# Altium schematic symbol library flipdot.SchLib: 13 symbols
Pins are listed as number, name and electrical type; pins without a type are passive.

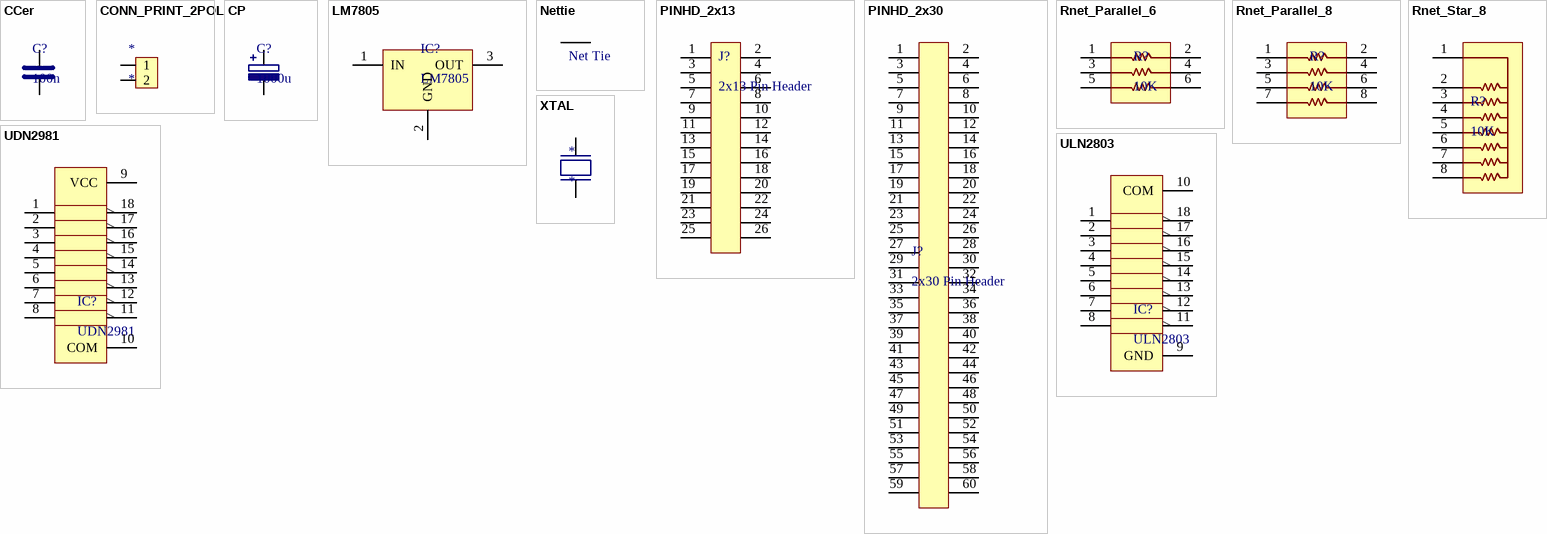
[diagram p0: symbols CCer to XTAL]

## CCer
designator C?, comment 100n
Ceramic Capacitor
pins: 1 +, 2 -

## CONN_PRINT_2POL
designator *
footprint CONN_PLUG_2P_5.08
pins: 1, 2

## CP
designator C?, comment 1000u
Electrolytic Capacitor
pins: N -, P +

## LM7805
designator IC?
5V Linear Regulator
pins: 1 IN, 2 GND, 3 OUT

## Nettie
designator NT?, comment Net Tie
pins: 1, 2

## PINHD_2x13
designator J?, comment 2x13 Pin Header
pins: 1 (power), 2 (power), 3 (power), 4 (power), 5 (power), 6 (power), 7 (power), 8 (power), 9 (power), 10 (power), 11 (power), 12 (power), 13 (power), 14 (power), 15 (power), 16 (power), 17 (power), 18 (power), 19 (power), 20 (power), 21 (power), 22 (power), 23 (power), 24 (power), 25 (power), 26 (power)

## PINHD_2x30
designator J?, comment 2x30 Pin Header
pins: 1 (power), 2 (power), 3 (power), 4 (power), 5 (power), 6 (power), 7 (power), 8 (power), 9 (power), 10 (power), 11 (power), 12 (power), 13 (power), 14 (power), 15 (power), 16 (power), 17 (power), 18 (power), 19 (power), 20 (power), 21 (power), 22 (power), 23 (power), 24 (power), 25 (power), 26 (power), 27 (power), 28 (power), 29 (power), 30 (power), 31 (power), 32 (power), 33 (power), 34 (power), 35 (power), 36 (power), 37 (power), 38 (power), 39 (power), 40 (power), 41 (power), 42 (power), 43 (power), 44 (power), 45 (power), 46 (power), 47 (power), 48 (power), 49 (power), 50 (power), 51 (power), 52 (power), 53 (power), 54 (power), 55 (power), 56 (power), 57 (power), 58 (power), 59 (power), 60 (power)

## Rnet_Parallel_6
designator R?, comment 10K
6-pin Parallel Resistor Network
pins: 1 COM (power), 2 (power), 3 (power), 4 (power), 5 (power), 6 (power)

## Rnet_Parallel_8
designator R?, comment 10K
8-pin Parallel Resistor Network
pins: 1 COM (power), 2 (power), 3 (power), 4 (power), 5 (power), 6 (power), 7 (power), 8 (power)

## Rnet_Star_8
designator R?, comment 10K
8-pin Star Configuration Resistor Network
pins: 1 COM (power), 2 (power), 3 (power), 4 (power), 5 (power), 6 (power), 7 (power), 8 (power)

## UDN2981
designator IC?
UDN2981 Octal Darlington Source Driver/Level Shifter
footprint PDIP-18 (DIP, 18-Leads, Row Spacing 7.62mm, Pitch 2.54mm, Body 22.5x6.4mm)
pins: 1 IN1, 2 IN2, 3 IN3, 4 IN4, 5 IN5, 6 IN6, 7 IN7, 8 IN8, 9 VCC, 10 COM, 11 OUT8, 12 OUT7, 13 OUT6, 14 OUT5, 15 OUT4, 16 OUT3, 17 OUT2, 18 OUT1

## ULN2803
designator IC?
ULN2803 Octal Darlington Sink Driver
footprint 18SOP_N (SOIC, 18-Leads, Body 11.6x7.1mm, Pitch 1.27mm, IPC Medium Density)
footprint PDIP-18 (DIP, 18-Leads, Row Spacing 7.62mm, Pitch 2.54mm, Body 22.5x6.4mm)
pins: 1 IN1, 2 IN2, 3 IN3, 4 IN4, 5 IN5, 6 IN6, 7 IN7, 8 IN8, 9 GND, 10 COM, 11 OUT8, 12 OUT7, 13 OUT6, 14 OUT5, 15 OUT4, 16 OUT3, 17 OUT2, 18 OUT1

## XTAL
designator *
pins: 1, 2